# Altium schematic symbol library WS-PBTL Illuminated THT Push button Switch.SchLib: 1 symbol
Pins are listed as number, name and electrical type; pins without a type are passive.

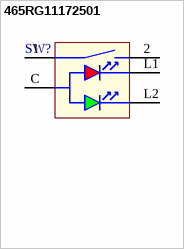
[diagram p0: symbol 465RG11172501]

## 465RG11172501
designator SW?
WS-PBTL 15 x 15mm Push Button Switch with integrated LED, THT version; PartNumber: 465RG11172501; PackageReference: 465RG11172501; ComponentLink1Description: Manufacturer URL; ComponentLink1URL: http://www.we-online.com; ComponentLink2Description: Datasheet; ComponentLink2URL: http://katalog.we-online.de/em/datasheet/465RG11172501.pdf
footprint 465RG11172501 (15x15mm vertical center type, THT, height 19.5mm, 12*12mm actuator, SPST, red/green Bi-color LED, with boss design, Tray)
pins: 1, 2, C, L1, L2